# Altium footprint library HEXCAL_PCB_LIB.PcbLib: 209 footprints (part 9 of 14)
Each footprint in its own frame and in the unit in brackets; x right, y up, seen from the top. Pads: shape width x height; smd on the part's side, far side on the other; paste and mask are expansions set on the pad; w line width, h text height; cw(c..) or ccw(c..) is an arc to the next point about the centre after c.
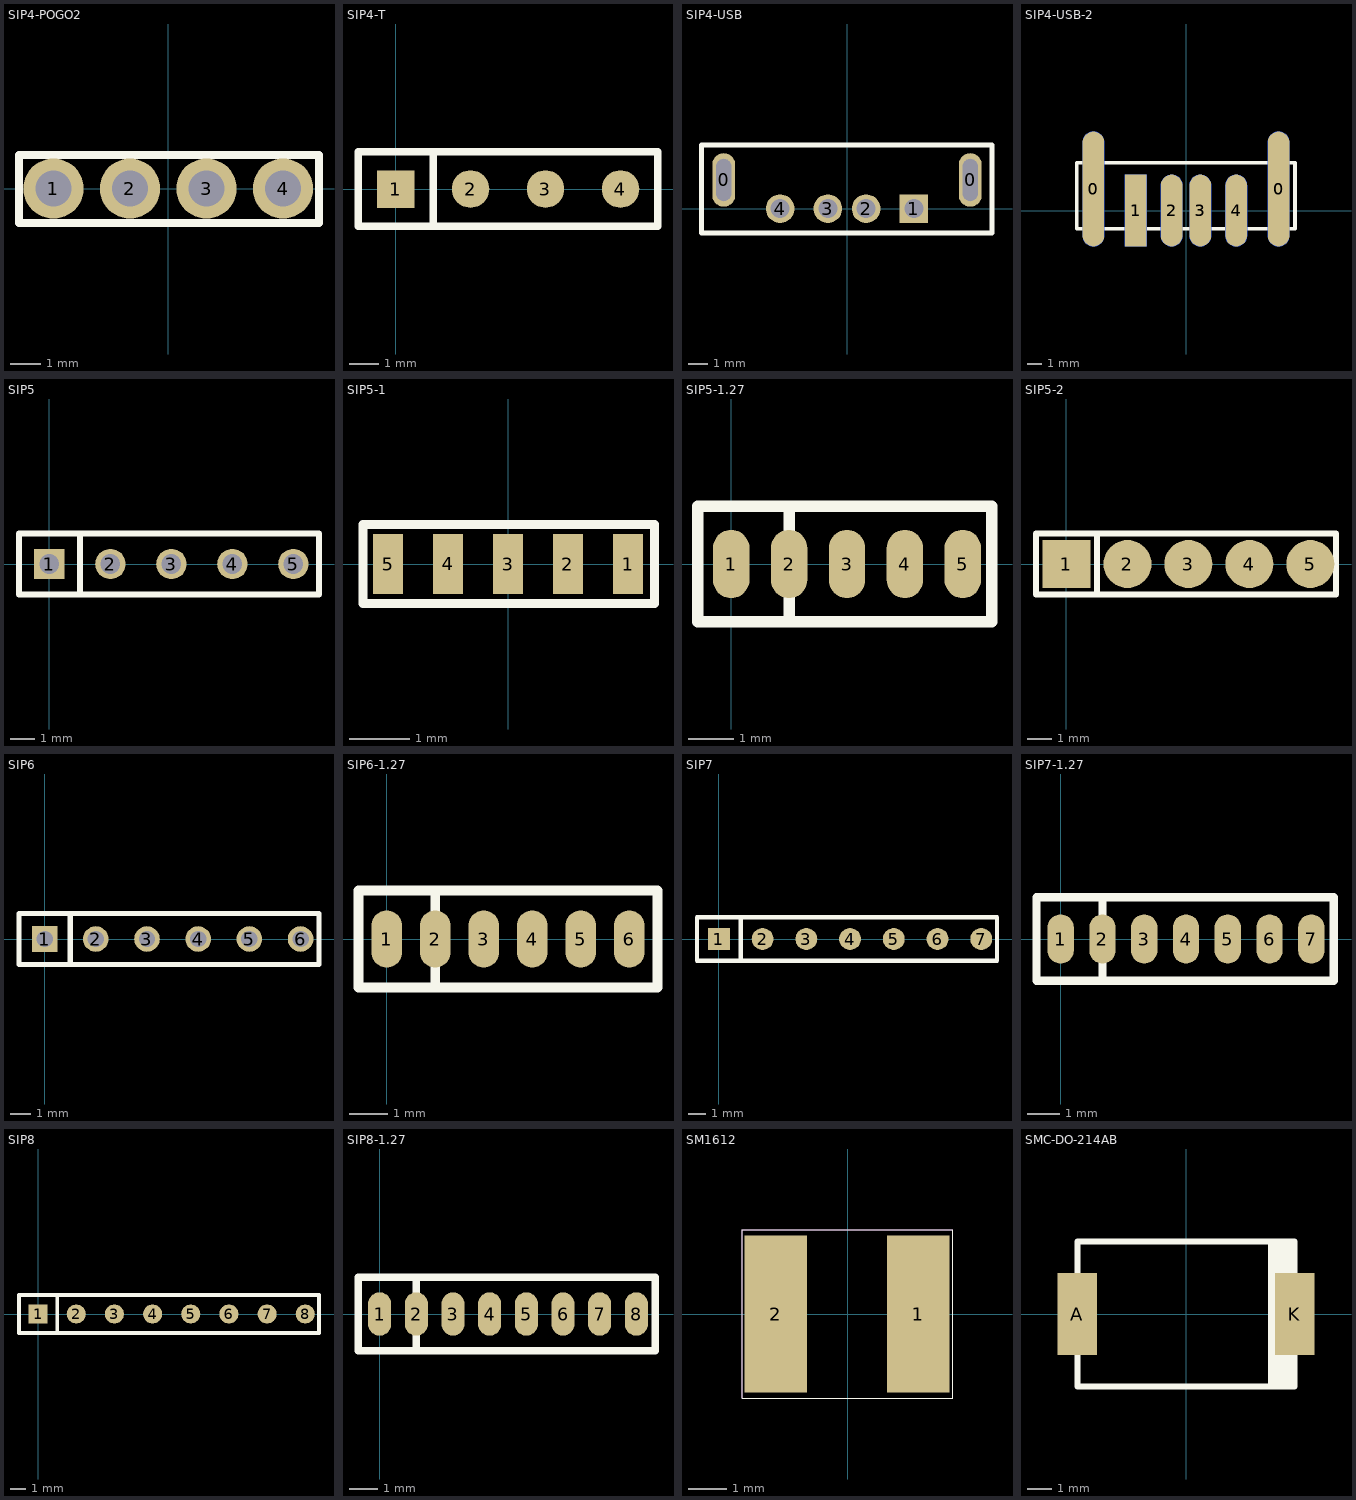
[diagram p8: the footprints below, top view; thin cyan lines are the x and y axes]

## SIP4-POGO2 [mm]
pads (4):
  round 2 hole 1.2: 1(-3.81,0) 2(-1.27,0) 3(1.27,0) 4(3.81,0)
Top Overlay:
  circle w0.254: c-1.27,0 r0.55
  circle w0.254: c-3.81,0 r0.55
  circle w0.254: c3.81,0 r0.55
  circle w0.254: c1.27,0 r0.55
  lines w0.254: -4.953,-1.143 5.004,-1.143 5.004,1.118 -4.953,1.118 -4.953,-1.143

## SIP4-T [mm]
pads (4):
  rect 1.27x1.27 smd: 1(0,0)
  round 1.27 smd: 2(2.54,0) 3(5.08,0) 4(7.62,0)
Top Overlay:
  lines w0.254: 1.27,-1.27 1.27,1.27 ; -1.27,-1.27 -1.27,1.27 8.89,1.27 8.89,-1.27 -1.27,-1.27

## SIP4-USB [mm]
pads (6):
  oval 1.2x2.8 hole 0.8 slot 2.2 at 90 deg: 0(-6.45,1.5) 0(6.45,1.5)
  rect 1.5x1.5 hole 1: 1(3.5,0)
  round 1.5 hole 1: 2(1,0) 3(-1,0) 4(-3.5,0)
Top Overlay:
  lines w0.254: -7.62,-1.27 7.595,-1.27 7.595,3.327 -7.62,3.327 -7.62,-1.27

## SIP4-USB-2 [mm]
pads (12):
  oval 1.5x8 smd: 0(-6.45,1.5) 0(6.45,1.5)
  oval 1.5x8 smd far side: 0(-6.45,1.5) 0(6.45,1.5)
  rect 1.5x5 smd: 1(-3.5,0)
  rect 1.5x5 smd far side: 1(-3.5,0)
  oval 1.5x5 smd: 2(-1,0) 3(1,0) 4(3.5,0)
  oval 1.5x5 smd far side: 2(-1,0) 3(1,0) 4(3.5,0)
Top Overlay:
  lines w0.254: -7.62,-1.27 7.595,-1.27 7.595,3.327 -7.62,3.327 -7.62,-1.27

## SIP5 [mil]
pads (5):
  rect 50x50 hole 32: 1(0,0)
  round 50 hole 32: 2(100,0) 3(200,0) 4(300,0) 5(400,0)
Top Overlay:
  lines w10: 50,-50 50,50 ; -50,-50 442,-50 442,50 -50,50 -50,-50

## SIP5-1 [mm]
pads (5):
  rect 0.5x1 smd: 1(2,0) 2(1,0) 3(0,0) 4(-1,0) 5(-2,0)
Top Overlay:
  lines w0.15: -2.413,-0.66 -2.413,0.66 2.438,0.66 2.438,-0.66 -2.413,-0.66

## SIP5-1.27 [mm]
pads (5):
  oval 0.8x1.5 smd: 1(0,0) 2(1.27,0) 3(2.54,0) 4(3.81,0) 5(5.08,0)
Top Overlay:
  lines w0.254: 1.27,-1.27 1.27,1.27 ; 5.715,-1.27 5.715,1.27 ; 5.715,-1.27 -0.737,-1.27 -0.737,1.27 5.715,1.27 ; 5.715,-1.27 5.715,1.27

## SIP5-2 [mm]
pads (5):
  rect 2x2 smd: 1(0,0)
  round 2 smd: 2(2.54,0) 3(5.08,0) 4(7.62,0) 5(10.16,0)
Top Overlay:
  lines w0.254: 1.27,-1.27 1.27,1.27 ; -1.27,-1.27 -1.27,1.27 11.227,1.27 11.227,-1.27 -1.27,-1.27

## SIP6 [mil]
pads (6):
  rect 50x50 hole 32: 1(0,0)
  round 50 hole 32: 2(100,0) 3(200,0) 4(300,0) 5(400,0) 6(500,0)
Top Overlay:
  lines w10: 50,-50 50,50 ; -50,-50 536,-50 536,50 -50,50 -50,-50

## SIP6-1.27 [mm]
pads (6):
  oval 0.8x1.5 smd: 1(0,0) 2(1.27,0) 3(2.54,0) 4(3.81,0) 5(5.08,0) 6(6.35,0)
Top Overlay:
  lines w0.254: 1.27,-1.27 1.27,1.27 ; -0.737,-1.27 7.087,-1.27 7.087,1.27 -0.737,1.27 -0.737,-1.27

## SIP7 [mm]
pads (7):
  rect 1.27x1.27 smd: 1(0,0)
  round 1.27 smd: 2(2.54,0) 3(5.08,0) 4(7.62,0) 5(10.16,0) 6(12.7,0) 7(15.24,0)
Top Overlay:
  lines w0.254: 1.27,-1.27 1.27,1.27 ; 16.154,-1.27 16.154,1.27 ; 16.154,-1.27 16.154,1.27 ; 16.154,-1.27 -1.27,-1.27 -1.27,1.27 16.154,1.27

## SIP7-1.27 [mm]
pads (7):
  oval 0.8x1.5 smd: 1(0,0) 2(1.27,0) 3(2.54,0) 4(3.81,0) 5(5.08,0) 6(6.35,0) 7(7.62,0)
Top Overlay:
  lines w0.254: 1.27,-1.27 1.27,1.27 ; -0.737,-1.27 8.306,-1.27 8.306,1.27 -0.737,1.27 -0.737,-1.27

## SIP8 [mm]
pads (8):
  rect 1.27x1.27 smd: 1(0,0)
  round 1.27 smd: 2(2.54,0) 3(5.08,0) 4(7.62,0) 5(10.16,0) 6(12.7,0) 7(15.24,0) 8(17.78,0)
Top Overlay:
  lines w0.254: 1.27,-1.27 1.27,1.27 ; 18.694,-1.27 18.694,1.27 ; 18.694,-1.27 -1.27,-1.27 -1.27,1.27 18.694,1.27 ; 18.694,-1.27 18.694,1.27

## SIP8-1.27 [mm]
pads (8):
  oval 0.8x1.5 smd: 1(0,0) 2(1.27,0) 3(2.54,0) 4(3.81,0) 5(5.08,0) 6(6.35,0) 7(7.62,0) 8(8.89,0)
Top Overlay:
  lines w0.254: 1.27,-1.27 1.27,1.27 ; -0.737,-1.27 -0.737,1.27 9.55,1.27 9.55,-1.27 -0.737,-1.27

## SM1612 [mm]
pads (2):
  rect 1.63x4.1 smd: 1(1.85,0) 2(-1.88,0)
Top Overlay:
  lines w0.025: -2.75,-2.2 -2.75,2.2 2.75,2.2 2.75,-2.2 -2.75,-2.2
Mechanical 6:
  lines w0.025: -2.75,-2.2 -2.75,2.2 2.75,2.2 2.75,-2.2 -2.75,-2.2
Mechanical 16:
  lines w0.025: -2.75,-2.2 -2.75,2.2 2.75,2.2 2.75,-2.2 -2.75,-2.2

## SMC-DO-214AB [mm]
pads (2):
  rect 1.63x3.4 smd: A(-4.5,0) K(4.5,0)
Top Overlay:
  lines w0.254: 3.525,-2.972 3.525,2.896 ; 3.754,-2.946 3.754,2.921 ; 3.983,-2.972 3.983,2.972 ; 4.237,-2.972 4.237,3 ; -4.488,-3 -4.488,3 0,3 4.488,3 4.488,-2.024 4.488,-3 -4.488,-3